# Altium schematic symbol library A765KN227M1CLAE016.SchLib: 1 symbol
Pins are listed as number, name and electrical type; pins without a type are passive.

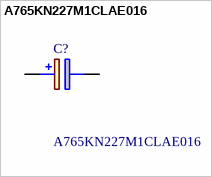
[diagram p0: symbol A765KN227M1CLAE016]

## A765KN227M1CLAE016
designator C?
A765, Aluminum, Polymer Aluminum, 220 uF, 20%, 16 VDC, -55/+105C, 105C, -55C, 105C, 2,000 Hrs, 16 mOhms, 704 uA, 8mm, 9.7mm, 500; Manufacturer_Name: KEMET; Geometry.Height: 10mm; Mouser Part Number: 80-A765KN227M1CLAE16; Mouser Price/Stock: https://www.mouser.co.uk/ProductDetail/KEMET/A765KN227M1CLAE016?qs=M6jHmRuQorVv0fT1Kt4HIQ%3D%3D; Manufacturer_Part_Number: A765KN227M1CLAE016; Datasheet Link: https://content.kemet.com/datasheets/KEM_A4070_A765.pdf
footprint CAPAE830X1000N
pins: 1 +, 2 -